# Altium schematic symbol library Terminal Block 14.SchLib: 1 symbol
Pins are listed as number, name and electrical type; pins without a type are passive.

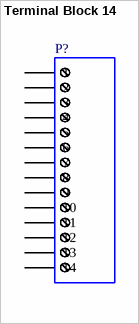
[diagram p0: symbol Terminal Block 14]

## Terminal Block 14
designator P?
Screw terminal block, 14-Way
pins: 1, 2, 3, 4, 5, 6, 7, 8, 9, 10, 11, 12, 13, 14